# EAGLE library part PIC16F527 (library MF_IC_Digital)
Manufacturer Part #: PIC16F527 Manufacturer: Microchip Technology Description: 8-bit Microcontrollers - MCU 8MHz Oscillator, 8b ADC 2x Comp, 2x Amps
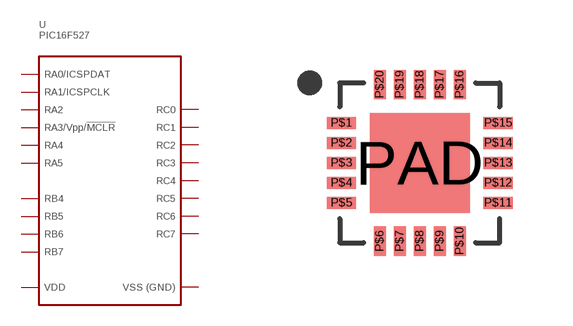
[diagram p9: symbol with the pads of QFN20; footprint QFN20]

Designator prefix U

## PIC16F527-I/ML (HOUSEPART: NO; MPN: PIC16F527-I/ML; POPULATE: 1; URL: http://ww1.microchip.com/downloads/en/DeviceDoc/40001652C.pdf; VALUE: PIC16F527-I/ML)  [QFN20]
P$1  RA3/VPP/!MCLR!
P$2  RC5
P$3  RC4
P$4  RC3
P$5  RC6
P$6  RC7
P$7  RB7
P$8  RB6
P$9  RB5
P$10  RB4
P$11  RC2
P$12  RC1
P$13  RC0
P$14  RA2
P$15  RA1/ICSPCLK
P$16  RA0/ICSPDAT
P$17  GND  pwr
P$18  VDD  pwr
P$19  RA5
P$20  RA4

## Footprint QFN20 (pad centres in mm)
Description: Standard OFN-20 Package.
smd 0.73 x 0.3: P$1 -1.96,1; P$2 -1.96,0.5; P$3 -1.96,0; P$4 -1.96,-0.5; P$5 -1.96,-1; P$11 1.96,-1; P$12 1.96,-0.5; P$13 1.96,0; P$14 1.96,0.5; P$15 1.96,1
smd 0.3 x 0.73: P$6 -1,-1.96; P$7 -0.5,-1.96; P$8 0,-1.96; P$9 0.5,-1.96; P$10 1,-1.96; P$16 1,1.96; P$17 0.5,1.96; P$18 0,1.96; P$19 -0.5,1.96; P$20 -1,1.96
smd 2.5 x 2.5: PAD 0,0